# Altium schematic symbol library PBL - Power Supplies.SCHLIB: 7 symbols
Pins are listed as number, name and electrical type; pins without a type are passive.

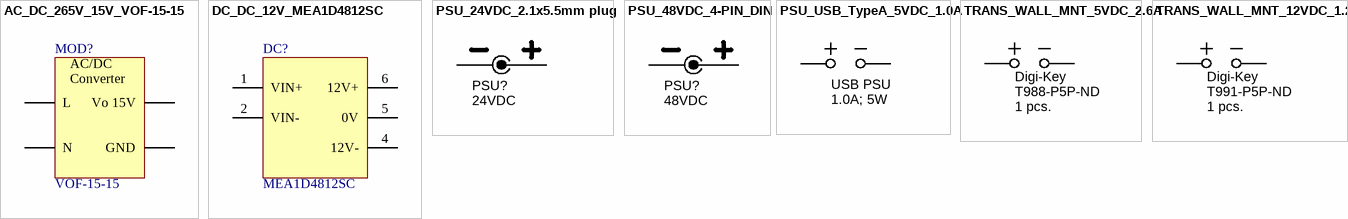
[diagram p0: symbols AC_DC_265V_15V_VOF-15-15 to TRANS_WALL_MNT_12VDC_1.25A]

## AC_DC_265V_15V_VOF-15-15
designator MOD?, comment VOF-15-15
Open Frame AC DC Converter 1 Output 15V 1A 85 ~ 264 VAC Input; Manufacturer: CUI Inc.; Number of Outputs: 1; Power (Watts): 15W; Efficiency: 80%; Line Regulation: ±0.5%; Load Regulation: ±1%; Approvals: CE, cULus, TUV; Supplier 1: Digi-Key; Supplier Part Number 1: 102-2047-ND; RoHS: RoHS Compliant; Category: Power Supplies - Board Mount; Stock 1: 400; Pricing 1: 1=16.8, 5=16.56, 10=16.32, 25=15.36, 50=14.88, 100=14.4, 250=13.92, 500=13.44 (USD); Part Status: Active; Type: Open Frame; Voltage - Input: 85 ~ 264 VAC; Voltage - Output 1: 15V; Voltage - Output 2: -; Voltage - Output 3: -; Voltage - Output 4: -; Current - Output (Max): 1A; Applications: ITE (Commercial); Features: OCP, OVP, SCP; Operating Temperature: 0°C ~ 60°C (With Derating); Mounting Type: Through Hole; Package / Case: 4-DIP Module; Size / Dimension: 2.76" L x 1.91" W x 0.91" H (70.0mm x 48.6mm x 23.1mm); Weight: -; ComponentLink1URL: http://www.cui.com/product/resource/digikeypdf/vof-15.pdf; ComponentLink1Description: http://www.cui.com/product/resource/digikeypdf/vof-15.pdf; Manufacturer Part Number: VOF-15-15
footprint VOF-15-15 4 DIP (Open Frame AC DC Converter 1 Output 15V 1A 85 ~ 264 VAC Input)
pins: GND, L, N, Vo Vo 15V
text: AC/DC; Converter

## DC_DC_12V_MEA1D4812SC
designator DC?, comment MEA1D4812SC
Isolated Module DC DC Converter 2 Output 12V -12V   42mA, 42mA 43.2V - 52.8V Input; Manufacturer: Murata Power Solutions Inc.; Description: DC DC CONVERTER +/-12V 1W; Efficiency: 83%; Supplier 1: Digi-Key; Supplier Part Number 1: 811-2177-5-ND; RoHS: RoHS Compliant; Category: Power Supplies - Board Mount; Stock 1: 86; Pricing 1: 1=5.45, 5=5.42, 10=5.38, 25=5.32, 50=5.19, 100=4.93, 250=4.62004, 500=4.31, 1000=4.2826 (USD); Packaging: Tube; Part Status: Active; Type: Isolated Module; Voltage - Input (Min): 43.2V; Voltage - Input (Max): 52.8V; Voltage - Output 1: 12V; Voltage - Output 2: -12V; Voltage - Output 3: -; Current - Output (Max): 42mA, 42mA; Applications: ITE (Commercial); Features: -; Operating Temperature: -40°C ~ 85°C; Mounting Type: Through Hole; Package / Case: 7-SIP Module, 5 Leads; Size / Dimension: 0.77" L x 0.24" W x 0.40" H (19.7mm x 6.2mm x 10.2mm); Control Features: -; ComponentLink1URL: https://power.murata.com/data/power/ncl/kdc_mea.pdf; ComponentLink1Description: https://power.murata.com/data/power/ncl/kdc_mea.pdf; Manufacturer Part Number: MEA1D4812SC
pins: 1 VIN+, 2 VIN-, 4 12V-, 5 0V, 6 12V+

## PSU_24VDC_2.1x5.5mm plug
designator PSU?, comment 24VDC  (mechanical)
Power Supply 24VDC 2.5A 2.1mm ID x 5.5mm OD plug; Manufacturer 1: CUI Inc; Manufacturer Part Number 1: ETS240250UTC-P5RP-SZ; Ratings: 24VDC; 2.5A; Form: Desktop (3 Prong with Cord); Polarization: Positive Center; Cord Plug: 2.1mm I.D. x 5.5mm O.D. x 12mm Female; Voltage - Input: 100 ~ 240VAC; Power - Output: 60W; Transformer Type: Switching - Energy Star; SCDType: undef; Value: 24VDC; RoHS: RoHS Compliant; Supplier 1: Digi-Key; Supplier Part Number 1: T1049-P5RP-ND
pins: 1, 2

## PSU_48VDC_4-PIN_DIN
designator PSU?, comment 48VDC  (mechanical)
Power Supply 48VDC 100W 4-pin DIN plug; Manufacturer 1: TDK-LAMBDA AMERICAS INC; Manufacturer Part Number 1: DT100PW480C; Ratings: 48VDC; 2.09A; 100W; Form: Desktop (3 Prong with Cord); Voltage - Input: 100 ~ 240VAC; Transformer Type: Switching - Energy Star; SCDType: undef; Value: 48VDC; Cord Plug: 4-Pin DIN; Supplier 1: Digi-Key; Supplier Part Number 1: 285-1925-ND
pins: 1, 2

## PSU_USB_TypeA_5VDC_1.0A
designator PSU?, comment USB PSU  Ratings: 1.0A; 5W  (mechanical)
Power supply wall wart USB Type A 5W; Manufacturer 1: CUI Inc; Manufacturer Part Number 1: EPS050100U-I38-SZ; Value: 5VDC; SCDType: undef; Supplier 1: Digi-Key; Supplier Part Number 1: T1003-ND

## TRANS_WALL_MNT_5VDC_2.6A
designator PSU?, comment 1 pcs.  Supplier 1: Digi-Key  Supplier Part Number 1: T988-P5P-ND  (mechanical)
Transformer, Wall-Mount, 5VDC; Manufacturer 1: CUI Inc; Manufacturer Part Number 1: EPS050260UH-P5P-SZ; Ratings: 2.6A; 15W; SCDType: undef; Value: 5VDC

## TRANS_WALL_MNT_12VDC_1.25A
designator PSU?, comment 1 pcs.  Supplier 1: Digi-Key  Supplier Part Number 1: T991-P5P-ND  (mechanical)
Transformer, Wall-Mount, 12VDC; Manufacturer 1: CUI Inc; Manufacturer Part Number 1: EPS120125UH-P5P-SZ; Ratings: 1.25A; 15W; SCDType: undef; Value: 12VDC